# Altium schematic symbol library Schlib.SchLib: 16 symbols
Pins are listed as number, name and electrical type; pins without a type are passive.

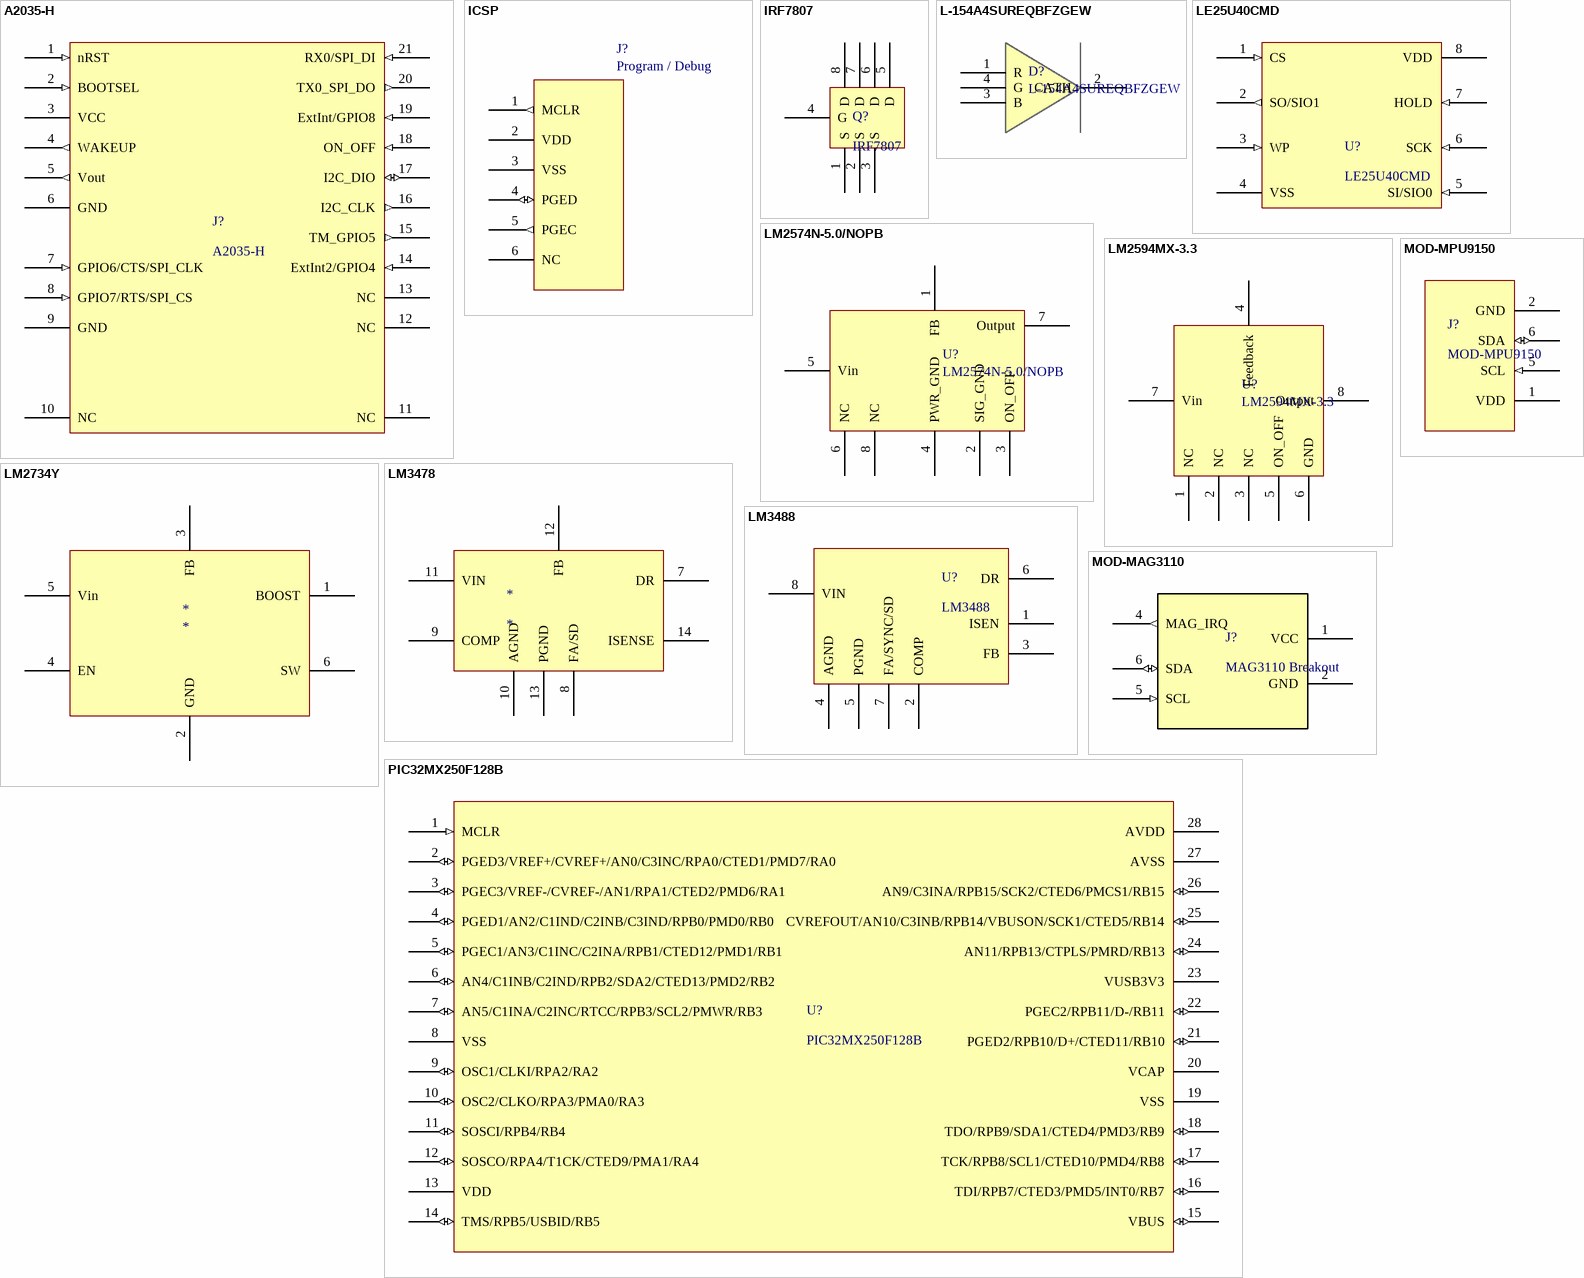
[diagram p0: symbols A2035-H to PIC32MX250F128B]

## A2035-H
designator J?
GPS Module; Fabricant: MAESTRO WIRELESS SOLUTIONS; RefFabricant: A2035H; Fournisseur: Farnell; RefFournisseur: 2281693
footprint A2035-H
pins: 1 nRST (in), 2 BOOTSEL (in), 3 VCC (power), 4 WAKEUP (out), 5 Vout (out), 6 GND (power), 7 GPIO6/CTS/SPI_CLK (in), 8 GPIO7/RTS/SPI_CS (in), 9 GND (power), 10 NC, 11 NC, 12 NC, 13 NC, 14 ExtInt2/GPIO4 (in), 15 TM_GPIO5 (out), 16 I2C_CLK (out), 17 I2C_DIO (io), 18 ON_OFF (in), 19 ExtInt/GPIO8 (in), 20 TX0_SPI_DO (out), 21 RX0/SPI_DI (in)

## ICSP
designator J?, comment Program / Debug
Fabricant: Molex; RefFabricant: 90120-0126; Fournisseur: Farnell; RefFournisseur: 2313717
footprint C-Grid III X6
pins: 1 MCLR (out), 2 VDD (power), 3 VSS (power), 4 PGED (io), 5 PGEC (out), 6 NC

## IRF7807
designator Q?
MOSFET-8; Fabricant: INFINEON; RefFabricant: IRF7807VTRPBF; Fournisseur: Farnell; RefFournisseur: 2839485
footprint SO-8 (IRF7807)
pins: 1 S, 2 S, 3 S, 4 G, 5 D, 6 D, 7 D, 8 D

## L-154A4SUREQBFZGEW
designator D?
LED RGB; Fabricant: Kingbright; Fournisseur: Farnell; RefFournisseur: 2290375; RefFabricant: L-154A4SUREQBFZGEW
footprint L-154A4SUREQBFZGEW (LED RGB)
pins: 1 R, 2 CATH, 3 B, 4 G

## LE25U40CMD
designator U?
Flash memory; Fabricant: On Semiconductor; RefFabricant: LE25U40CMDTWG; Fournisseur: Farnell; RefFournisseur: 2627898
footprint LE25U40CMDTWG
pins: 1 CS (in), 2 SO/SIO1 (out), 3 WP (in), 4 VSS (power), 5 SI/SIO0 (in), 6 SCK (in), 7 HOLD (in), 8 VDD (power)

## LM2574N-5.0/NOPB
designator U?
5V Buck converter; Fabricant: Texas Instruments; Fournisseur: Farnell; RefFournisseur: 1469169; RefFabricant: LM2574N-5.0/NOPB
footprint DIP8
pins: 1 FB, 2 SIG_GND, 3 ON_OFF, 4 PWR_GND, 5 Vin, 6 NC, 7 Output, 8 NC

## LM2594MX-3.3
designator U?
3.3V Buck converter; RefFabricant: LM2594MX-3.3/NOPB; RefFournisseur: 2764813; Fabricant: Texas Instruments; Fournisseur: Farnell
footprint SOP8
pins: 1 NC, 2 NC, 3 NC, 4 Feedback, 5 ON_OFF, 6 GND, 7 Vin, 8 Output

## LM2734Y
designator *
Step-Down
pins: 1 BOOST, 2 GND, 3 FB, 4 EN, 5 Vin, 6 SW

## LM3478
designator *
pins: 7 DR, 8 FA/SD, 9 COMP, 10 AGND, 11 VIN, 12 FB, 13 PGND, 14 ISENSE

## LM3488
designator U?
SEPIC 5V; Fabricant: Texas Instruments; RefFabricant: LM3488MMX/NOPB; Fournisseur: Farnell; RefFournisseur: 2769264
footprint S-PDSO-G8 (LM3488)
pins: 1 ISEN, 2 COMP, 3 FB, 4 AGND, 5 PGND, 6 DR, 7 FA/SYNC/SD, 8 VIN

## MOD-MAG3110
designator J?, comment MAG3110 Breakout
Fournisseur: Farnell; RefFabricant: 5103310-1; Fabricant: AMP - TE Connectvity; RefFournisseur: 2452436
footprint UEXT_MALE x10
pins: 1 VCC (power), 2 GND (power), 4 MAG_IRQ (out) "I2C Serial Clock", 5 SCL (in), 6 SDA (io) "I2C Serial Data"

## MOD-MPU9150
designator J?
9-Axis; Fabricant: AMP - TE Connectivy; RefFabricant: 5103310-1; Fournisseur: Farnell; RefFournisseur: 2452436
footprint UEXT_MALE x10
pins: 1 VDD (power), 2 GND (power), 5 SCL (in), 6 SDA (io)

## PIC32MX250F128B
designator U?
Microcontrolleur; Fabricant: Microchip; RefFabricant: PIC32MX250F128B-I/SO; Fournisseur: Farnell; RefFournisseur: 2097772
footprint PIC32MX250F128/SO
pins: 1 MCLR (in), 2 PGED3/VREF+/CVREF+/AN0/C3INC/RPA0/CTED1/PMD7/RA0 (io), 3 PGEC3/VREF-/CVREF-/AN1/RPA1/CTED2/PMD6/RA1 (io), 4 PGED1/AN2/C1IND/C2INB/C3IND/RPB0/PMD0/RB0 (io), 5 PGEC1/AN3/C1INC/C2INA/RPB1/CTED12/PMD1/RB1 (io), 6 AN4/C1INB/C2IND/RPB2/SDA2/CTED13/PMD2/RB2 (io), 7 AN5/C1INA/C2INC/RTCC/RPB3/SCL2/PMWR/RB3 (io), 8 VSS (power), 9 OSC1/CLKI/RPA2/RA2 (io), 10 OSC2/CLKO/RPA3/PMA0/RA3 (io), 11 SOSCI/RPB4/RB4 (io), 12 SOSCO/RPA4/T1CK/CTED9/PMA1/RA4 (io), 13 VDD, 14 TMS/RPB5/USBID/RB5 (io), 15 VBUS (io), 16 TDI/RPB7/CTED3/PMD5/INT0/RB7 (io), 17 TCK/RPB8/SCL1/CTED10/PMD4/RB8 (io), 18 TDO/RPB9/SDA1/CTED4/PMD3/RB9 (io), 19 VSS (power), 20 VCAP (power), 21 PGED2/RPB10/D+/CTED11/RB10 (io), 22 PGEC2/RPB11/D-/RB11 (io), 23 VUSB3V3 (power), 24 AN11/RPB13/CTPLS/PMRD/RB13 (io), 25 CVREFOUT/AN10/C3INB/RPB14/VBUSON/SCK1/CTED5/RB14 (io), 26 AN9/C3INA/RPB15/SCK2/CTED6/PMCS1/RB15 (io), 27 AVSS (power), 28 AVDD (power)

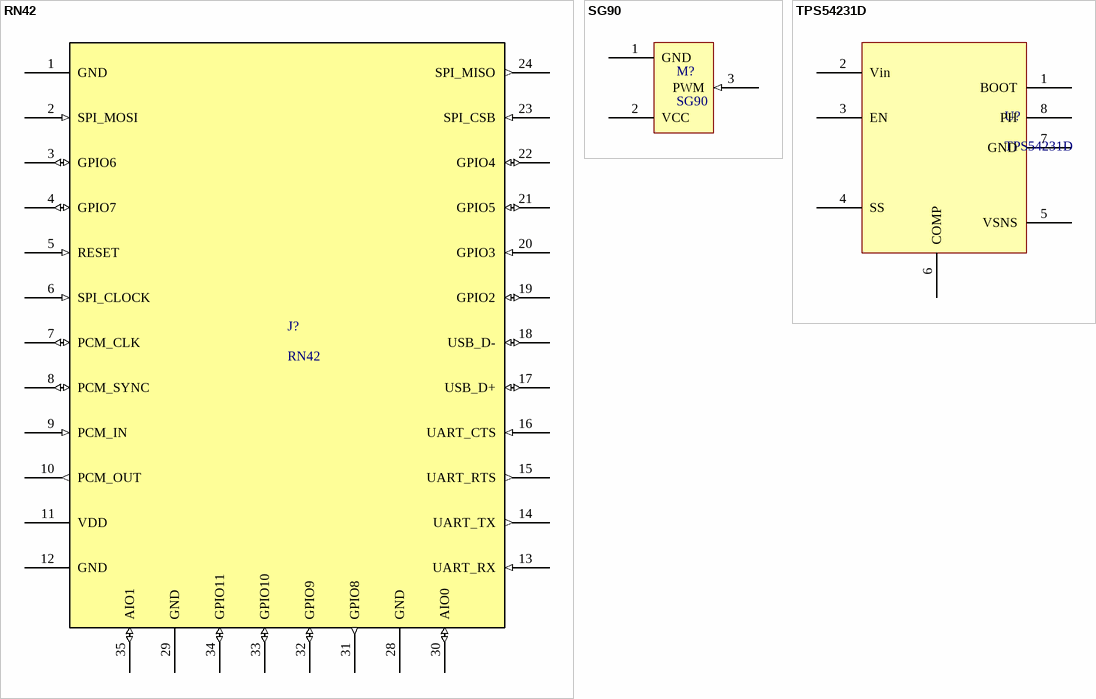
[diagram p1: symbols RN42 to TPS54231D]

## RN42
designator J?
Bluetooth Module; Fabricant: Microchip; RefFabricant: RN42-I/RM; Fournisseur: Farnell; RefFournisseur: 2143310
footprint RN42
pins: 1 GND (power), 2 SPI_MOSI (in), 3 GPIO6 (io), 4 GPIO7 (io), 5 RESET (in), 6 SPI_CLOCK (in), 7 PCM_CLK (io), 8 PCM_SYNC (io), 9 PCM_IN (in), 10 PCM_OUT (out), 11 VDD (power), 12 GND (power), 13 UART_RX (in), 14 UART_TX (out), 15 UART_RTS (out), 16 UART_CTS (in), 17 USB_D+ (io), 18 USB_D- (io), 19 GPIO2 (io), 20 GPIO3 (in), 21 GPIO5 (io), 22 GPIO4 (io), 23 SPI_CSB (in), 24 SPI_MISO (out), 28 GND (power), 29 GND (power), 30 AIO0 (io), 31 GPIO8 (out), 32 GPIO9 (io), 33 GPIO10 (io), 34 GPIO11 (io), 35 AIO1 (io)

## SG90
designator M?
Servo motor; Fabricant: Molex; Fournisseur: Farnell; RefFournisseur: 9731156; RefFabricant: 22-27-2031
footprint C-Grid III x3
pins: 1 GND (power), 2 VCC (power), 3 PWM (in)

## TPS54231D
designator U?
Buck SD 3.3V; Fabricant: Texas Instruments; Fournisseur: Farnell; RefFournisseur: 1755637; RefFabricant: TPS54231D
footprint R-PDSO-G8 (TPS54231)
pins: 1 BOOT, 2 Vin, 3 EN, 4 SS, 5 VSNS, 6 COMP, 7 GND, 8 PH